# Altium schematic symbol library Conn_TE_1776275-2_eec.SchLib: 1 symbol
Pins are listed as number, name and electrical type; pins without a type are passive.

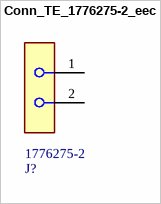
[diagram p0: symbol Conn_TE_1776275-2_eec]

## Conn_TE_1776275-2_eec
designator J?  Part Number: 1776275-2
CONN TERM BLOCK 2POS SIDE ENT 3.5MM; Manufacturer: TE; Voltage: 250V; Is Female: yes; helpURL: https://upverter.com/upn/revision/4e6edfab3561cdf2/; ComponentLink2Description: Datasheet; Temperature: -55°C to +105°C; Package: HDR02; Supplier 2: Mouser; Price: 0.260723926123; Supplier 1: Digi-Key; ComponentLink1URL: https://upverter.com/upn/revision/4e6edfab3561cdf2/; Supplier Part Number 2: 571-1776275-2; Supplier Part Number 1: A98036-ND; ComponentLink1Description: Upverter; ComponentLink2URL: http://www.te.com/commerce/DocumentDelivery/DDEController?Action=showdoc&DocId=Customer+Drawing%7F1776275%7FR%7Fpdf%7FEnglish%7FENG_CD_1776275_R_baseFilename.pdf%7F1776275-2; RoHS: TRUE; Mouser Part Number: 571-1776275-2; Temperature Range High: +105°C; Digikey Description: CONN TERM BLOCK 2POS SIDE ENT 3.5MM; Digikey Part Number: A98036-ND; Lead Free: yes; Temperature Range Low: -55°C
footprint TE_1776275-2_0
pins: 1, 2